# Altium footprint library CRCW25121K80JNEG.PcbLib: 3 footprints
Each footprint in its own frame and in the unit in brackets; x right, y up, seen from the top. Pads: shape width x height; smd on the part's side, far side on the other; paste and mask are expansions set on the pad; w line width, h text height; cw(c..) or ccw(c..) is an arc to the next point about the centre after c.
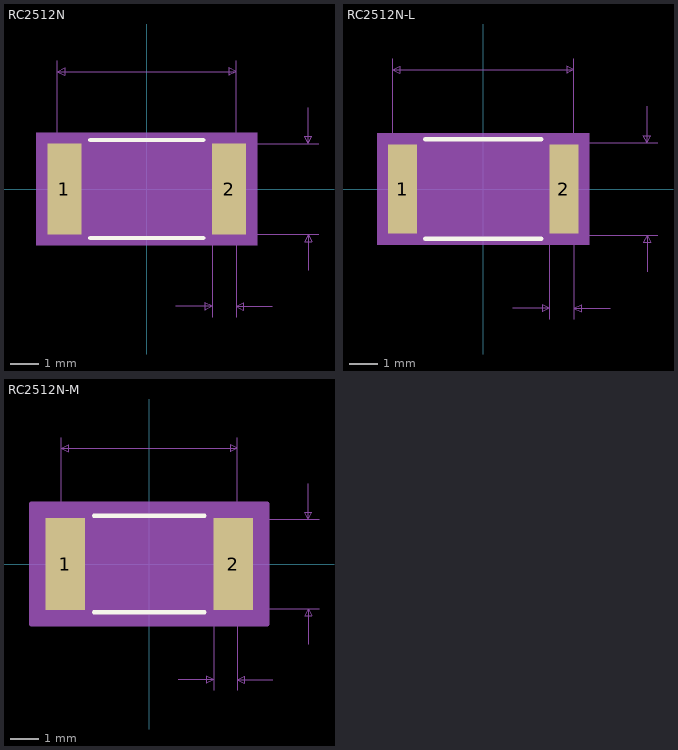
[diagram p0: the footprints below, top view; thin cyan lines are the x and y axes]

## RC2512N [mm]
pads (2):
  rect 1.206x3.2 smd: 1(-2.903,0) 2(2.903,0)
Top Overlay:
  lines w0.152: -1.992,-1.727 1.992,-1.727 ; -1.992,1.727 1.992,1.727
Mechanical 5:
  region: 3.887,-1.981 -3.887,-1.981 -3.887,1.981 3.887,1.981
Mechanical 7:
  lines w0.025: -3.15,0 -3.15,4.521 ; 0,-1.6 6.071,-1.6 ; 0,1.6 6.071,1.6 ; 1.03,-4.14 2.3,-4.14 ; 2.3,-4.521 2.3,0 ; 3.15,-4.521 3.15,0 3.15,4.521 ; 4.42,-4.14 3.15,-4.14 ; 5.69,-2.87 5.69,-1.6 ; 5.69,2.87 5.69,1.6 ; -3.15,4.14 3.15,4.14 ; -3.15,4.14 -2.896,4.267 -2.896,4.013 -3.15,4.14 ; 2.3,-4.14 2.046,-4.013 2.046,-4.267 2.3,-4.14 ; 3.15,-4.14 3.404,-4.013 3.404,-4.267 3.15,-4.14 ; 3.15,4.14 2.896,4.267 2.896,4.013 3.15,4.14 ; 5.69,-1.6 5.563,-1.854 5.817,-1.854 5.69,-1.6 ; 5.69,1.6 5.563,1.854 5.817,1.854 5.69,1.6
  text "Default Padstyle: RX47p46Y125p98D0T" at -11.112,-8.458 h1.27
  text "Alternate 1 Padstyle: OX60Y90D30P" at -10.477,-10.998 h1.27
  text "Alternate 2 Padstyle: OX90Y60D30P" at -10.477,-13.538 h1.27
  text "0.126in/3.2mm" at 6.198,-0.318 h0.64
  text "0.248in/6.3mm" at -2.064,4.648 h0.64
  text "0.033in/0.85mm" at 0.502,-5.283 h0.64
Mechanical 13:
  lines w0.025: -3.15,-1.6 -3.15,1.6 ; -3.15,-1.6 -2.3,-1.6 -2.3,1.6 -3.15,1.6 ; -3.15,-1.6 3.15,-1.6 ; -3.15,-1.6 -3.15,1.6 ; -3.15,1.6 3.15,1.6 ; 3.15,-1.6 2.3,-1.6 2.3,1.6 3.15,1.6 ; 3.15,-1.6 3.15,1.6 ; 3.15,-1.6 3.15,1.6
Mechanical 15:
  region: 3.76,-1.854 -3.76,-1.854 -3.76,1.854 3.76,1.854
  lines w0.152: -3.76,-1.854 -3.76,1.854 3.76,1.854 3.76,-1.854 -3.76,-1.854
3D body: height 0.25, standoff 0, extent 0,0 0.254,0.254

## RC2512N-L [mm]
pads (2):
  rect 1.002x3.098 smd paste+0 mask+0: 1(-2.801,0) 2(2.801,0)
Top Overlay:
  lines w0.152: -2.019,-1.727 2.019,-1.727 ; -2.019,1.727 2.019,1.727
Mechanical 5:
  region: 3.683,-1.93 -3.683,-1.93 -3.683,1.93 3.683,1.93
Mechanical 7:
  lines w0.025: -3.15,0 -3.15,4.521 ; 0,-1.6 6.071,-1.6 ; 0,1.6 6.071,1.6 ; 1.03,-4.14 2.3,-4.14 ; 2.3,-4.521 2.3,0 ; 3.15,-4.521 3.15,0 3.15,4.521 ; 4.42,-4.14 3.15,-4.14 ; 5.69,-2.87 5.69,-1.6 ; 5.69,2.87 5.69,1.6 ; -3.15,4.14 3.15,4.14 ; -3.15,4.14 -2.896,4.267 -2.896,4.013 -3.15,4.14 ; 2.3,-4.14 2.046,-4.013 2.046,-4.267 2.3,-4.14 ; 3.15,-4.14 3.404,-4.013 3.404,-4.267 3.15,-4.14 ; 3.15,4.14 2.896,4.267 2.896,4.013 3.15,4.14 ; 5.69,-1.6 5.563,-1.854 5.817,-1.854 5.69,-1.6 ; 5.69,1.6 5.563,1.854 5.817,1.854 5.69,1.6
  text "Default Padstyle: RX39p46Y121p98D0T" at -11.112,-8.407 h1.27
  text "Alternate 1 Padstyle: OX60Y90D30P" at -10.477,-10.947 h1.27
  text "Alternate 2 Padstyle: OX90Y60D30P" at -10.477,-13.487 h1.27
  text "0.126in/3.2mm" at 6.198,-0.318 h0.64
  text "0.248in/6.3mm" at -2.064,4.648 h0.64
  text "0.033in/0.85mm" at 0.502,-5.283 h0.64
Mechanical 13:
  lines w0.025: -3.15,-1.6 -3.15,1.6 ; -3.15,-1.6 -2.3,-1.6 -2.3,1.6 -3.15,1.6 ; -3.15,-1.6 3.15,-1.6 ; -3.15,-1.6 -3.15,1.6 ; -3.15,1.6 3.15,1.6 ; 3.15,-1.6 2.3,-1.6 2.3,1.6 3.15,1.6 ; 3.15,-1.6 3.15,1.6 ; 3.15,-1.6 3.15,1.6
Mechanical 15:
  region: 3.404,-1.651 -3.404,-1.651 -3.404,1.651 3.404,1.651
  lines w0.152: -3.404,-1.651 -3.404,1.651 3.404,1.651 3.404,-1.651 -3.404,-1.651
3D body: height 0.25, standoff 0, extent 0,0 0.254,0.254

## RC2512N-M [mm]
pads (2):
  rect 1.409x3.302 smd paste+0 mask+0: 1(-3.004,0) 2(3.004,0)
Top Overlay:
  lines w0.152: -1.976,-1.727 1.976,-1.727 ; -1.976,1.727 1.976,1.727
Mechanical 5:
  region: 4.09,-2.032 -4.09,-2.032 -4.09,2.032 4.09,2.032
Mechanical 7:
  lines w0.025: -3.15,0 -3.15,4.521 ; 0,-1.6 6.071,-1.6 ; 0,1.6 6.071,1.6 ; 1.03,-4.14 2.3,-4.14 ; 2.3,-4.521 2.3,0 ; 3.15,-4.521 3.15,0 3.15,4.521 ; 4.42,-4.14 3.15,-4.14 ; 5.69,-2.87 5.69,-1.6 ; 5.69,2.87 5.69,1.6 ; -3.15,4.14 3.15,4.14 ; -3.15,4.14 -2.896,4.267 -2.896,4.013 -3.15,4.14 ; 2.3,-4.14 2.046,-4.013 2.046,-4.267 2.3,-4.14 ; 3.15,-4.14 3.404,-4.013 3.404,-4.267 3.15,-4.14 ; 3.15,4.14 2.896,4.267 2.896,4.013 3.15,4.14 ; 5.69,-1.6 5.563,-1.854 5.817,-1.854 5.69,-1.6 ; 5.69,1.6 5.563,1.854 5.817,1.854 5.69,1.6
  text "Default Padstyle: RX55p46Y129p98D0T" at -11.112,-8.509 h1.27
  text "Alternate 1 Padstyle: OX60Y90D30P" at -10.477,-11.049 h1.27
  text "Alternate 2 Padstyle: OX90Y60D30P" at -10.477,-13.589 h1.27
  text "0.126in/3.2mm" at 6.198,-0.318 h0.64
  text "0.248in/6.3mm" at -2.064,4.648 h0.64
  text "0.033in/0.85mm" at 0.502,-5.283 h0.64
Mechanical 13:
  lines w0.025: -3.15,-1.6 -3.15,1.6 ; -3.15,-1.6 -2.3,-1.6 -2.3,1.6 -3.15,1.6 ; -3.15,-1.6 3.15,-1.6 ; -3.15,-1.6 -3.15,1.6 ; -3.15,1.6 3.15,1.6 ; 3.15,-1.6 2.3,-1.6 2.3,1.6 3.15,1.6 ; 3.15,-1.6 3.15,1.6 ; 3.15,-1.6 3.15,1.6
Mechanical 15:
  region: 4.217,-2.159 -4.217,-2.159 -4.217,2.159 4.217,2.159
  lines w0.152: -4.217,-2.159 -4.217,2.159 4.217,2.159 4.217,-2.159 -4.217,-2.159
3D body: height 0.25, standoff 0, extent 0,0 0.254,0.254